# EAGLE library part 61001611921 (library Board-to-Board (rev18a))
WR-PHD 2.54mm SMT Socket Header, 16 Pins=>Code : CON_BTB_SHD_2.54_1_SMT_61001611921 <http://katalog.we-online.de/media/images/eican/Con_BTB_SHD_2.54_1_SMT_6100xx11921_pf2.jpg> Details see: http://katalog.we-online.de/en/em/PHD_2_54_SMT_SOCKET_HEADER_6100XXXXX21 Created 2014-05-30, Karrer Zheng 2014 (C) Würth Elektronik
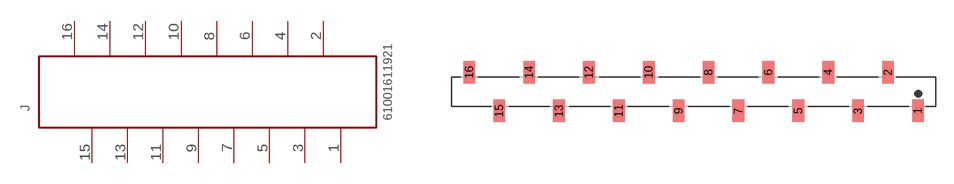
[diagram p190: symbol with the pads of 61001611921; footprint 61001611921]

Designator prefix J

## 61001611921  [61001611921]
1  1  pas
2  2  pas
3  3  pas
4  4  pas
5  5  pas
6  6  pas
7  7  pas
8  8  pas
9  9  pas
10  10  pas
11  11  pas
12  12  pas
13  13  pas
14  14  pas
15  15  pas
16  16  pas

## Footprint 61001611921 (pad centres in mm)
WR-PHD 2.54mm SMT Socket Header, 16 Pins
smd 1 x 1.91: 1 19.05,-1.645; 2 16.51,1.645; 3 13.97,-1.645; 4 11.43,1.645; 5 8.89,-1.645; 6 6.35,1.645; 7 3.81,-1.645; 8 1.27,1.645; 9 -1.27,-1.645; 10 -3.81,1.645; 11 -6.35,-1.645; 12 -8.89,1.645; 13 -11.43,-1.645; 14 -13.97,1.645; 15 -16.51,-1.645; 16 -19.05,1.645